# EAGLE library part C13 (library con-ninigi-3.96)
NINIGI
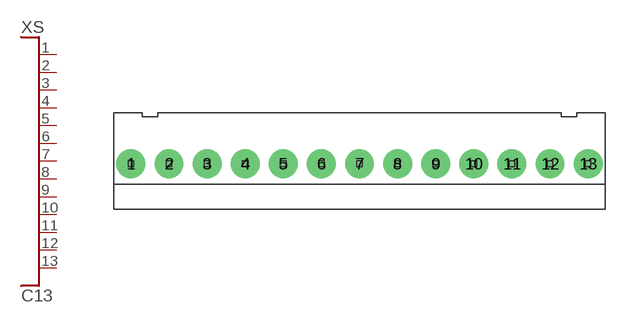
[diagram p7: symbol with the pads of NINIGI13C; footprint NINIGI13C]

Designator prefix XS

## C13  [NINIGI13C]
1  P$1
2  P$2
3  P$3
4  P$4
5  P$5
6  P$6
7  P$7
8  P$8
9  P$9
10  P$10
11  P$11
12  P$12
13  P$13

## Footprint NINIGI13C (pad centres in mm)
drill 1.6 pad 3: 1 -23.76,0; 2 -19.8,0; 3 -15.84,0; 4 -11.88,0; 5 -7.92,0; 6 -3.96,0; 7 0,0; 8 3.96,0; 9 7.92,0; 10 11.88,0; 11 15.84,0; 12 19.8,0; 13 23.76,0